# Altium schematic symbol library MTG_HOLE.SchLib: 1 symbol
Pins are listed as number, name and electrical type; pins without a type are passive.

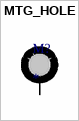
[diagram p0: symbol MTG_HOLE]

## MTG_HOLE
designator M?
pins: 0